# Altium schematic symbol library WE-LAN.SchLib: 54 symbols
Pins are listed as number, name and electrical type; pins without a type are passive.

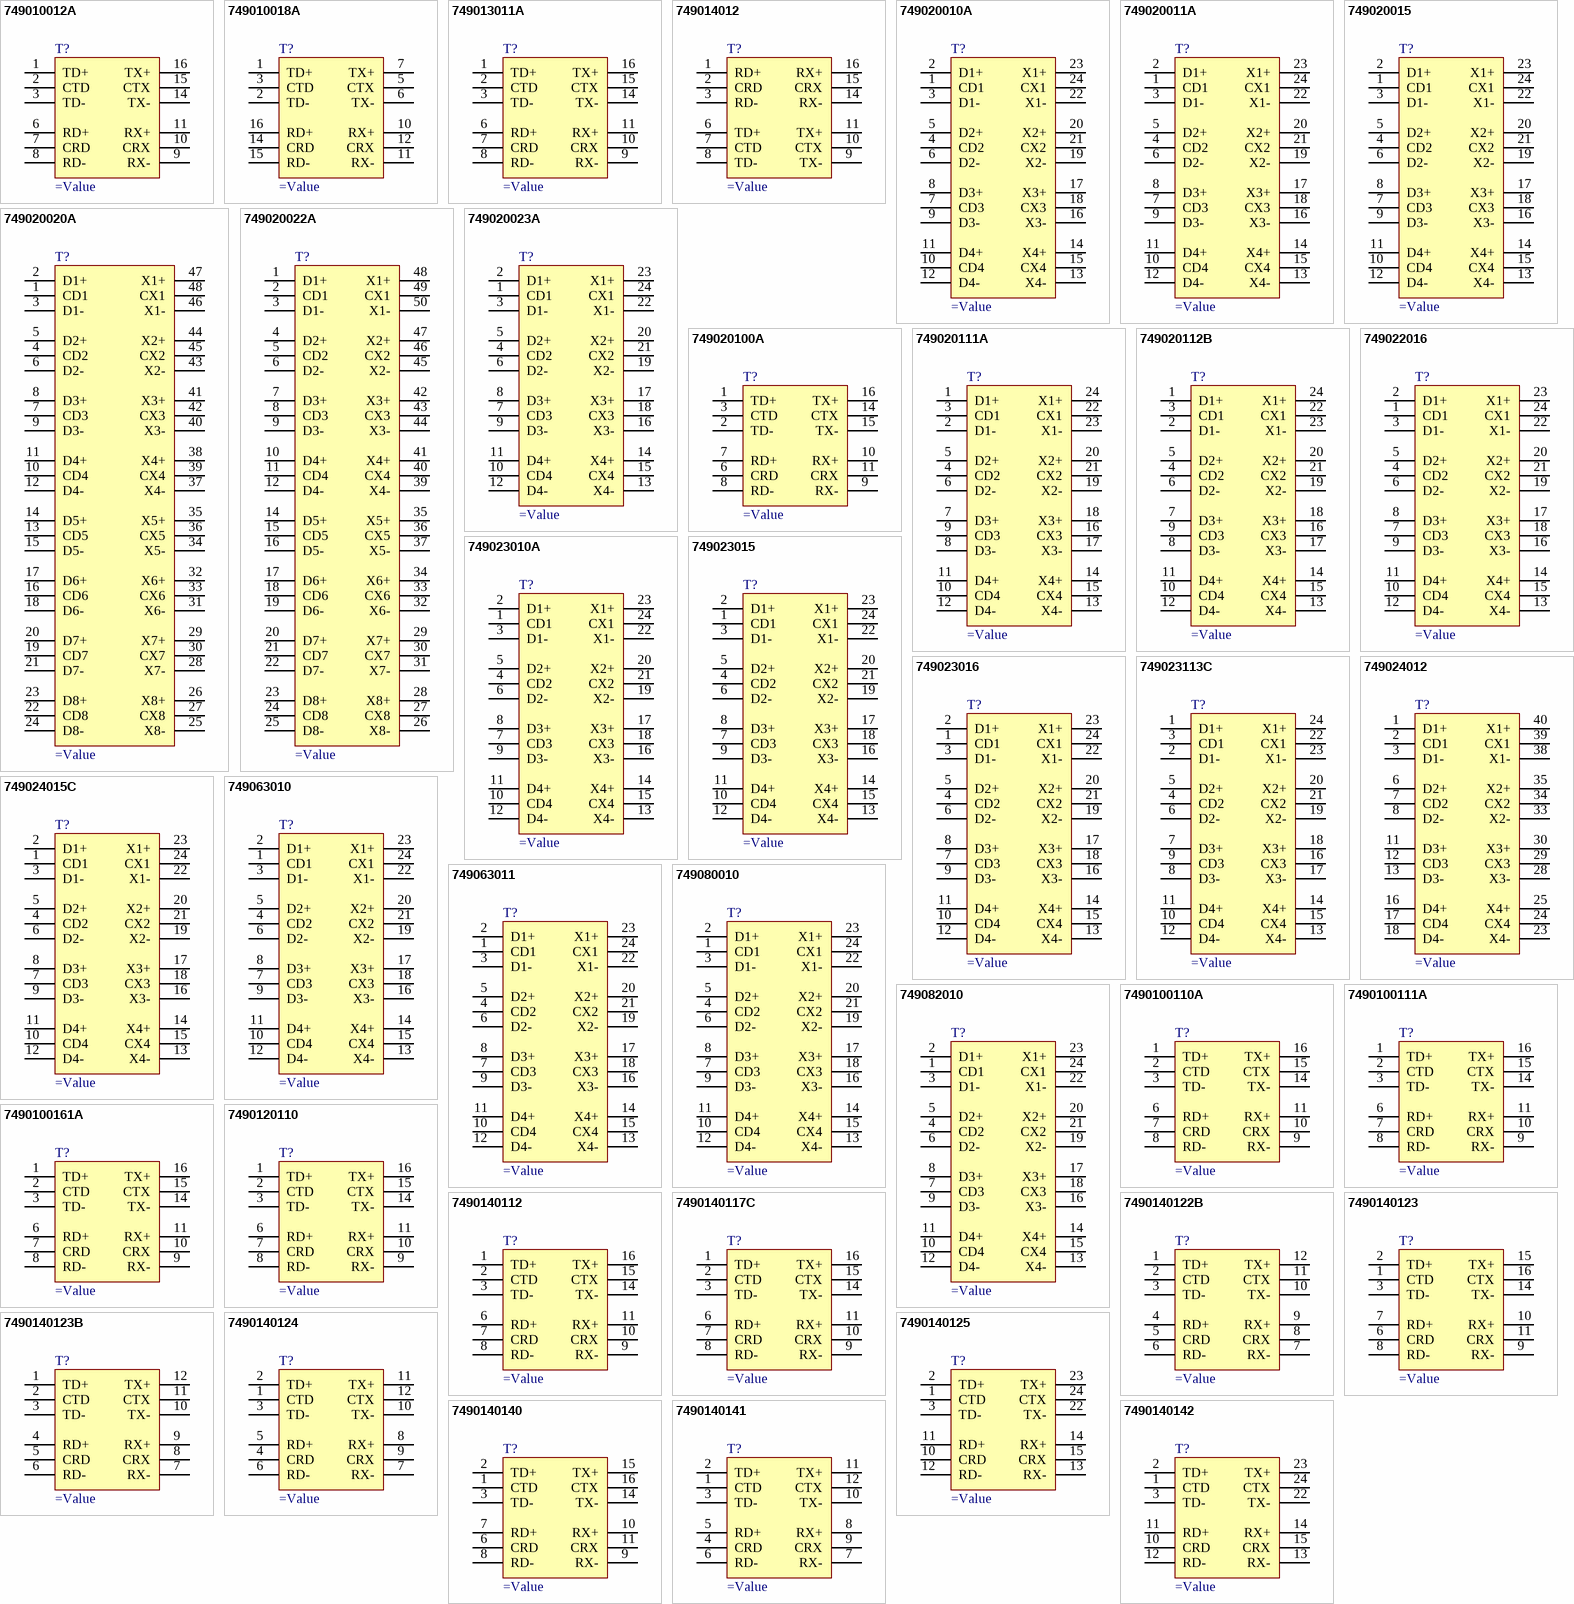
[diagram p0: symbols 749010012A to 7490140142]

## 749010012A
designator T?
pins: 1 TD+, 2 CTD, 3 TD-, 6 RD+, 7 CRD, 8 RD-, 9 RX-, 10 CRX, 11 RX+, 14 TX-, 15 CTX, 16 TX+

## 749010018A
designator T?
pins: 1 TD+, 2 TD-, 3 CTD, 5 CTX, 6 TX-, 7 TX+, 10 RX+, 11 RX-, 12 CRX, 14 CRD, 15 RD-, 16 RD+

## 749013011A
designator T?
pins: 1 TD+, 2 CTD, 3 TD-, 6 RD+, 7 CRD, 8 RD-, 9 RX-, 10 CRX, 11 RX+, 14 TX-, 15 CTX, 16 TX+

## 749014012
designator T?
pins: 1 RD+, 2 CRD, 3 RD-, 6 TD+, 7 CTD, 8 TD-, 9 TX-, 10 CTX, 11 TX+, 14 RX-, 15 CRX, 16 RX+

## 749020010A
designator T?
pins: 1 CD1, 2 D1+, 3 D1-, 4 CD2, 5 D2+, 6 D2-, 7 CD3, 8 D3+, 9 D3-, 10 CD4, 11 D4+, 12 D4-, 13 X4-, 14 X4+, 15 CX4, 16 X3-, 17 X3+, 18 CX3, 19 X2-, 20 X2+, 21 CX2, 22 X1-, 23 X1+, 24 CX1

## 749020011A
designator T?
pins: 1 CD1, 2 D1+, 3 D1-, 4 CD2, 5 D2+, 6 D2-, 7 CD3, 8 D3+, 9 D3-, 10 CD4, 11 D4+, 12 D4-, 13 X4-, 14 X4+, 15 CX4, 16 X3-, 17 X3+, 18 CX3, 19 X2-, 20 X2+, 21 CX2, 22 X1-, 23 X1+, 24 CX1

## 749020015
designator T?
pins: 1 CD1, 2 D1+, 3 D1-, 4 CD2, 5 D2+, 6 D2-, 7 CD3, 8 D3+, 9 D3-, 10 CD4, 11 D4+, 12 D4-, 13 X4-, 14 X4+, 15 CX4, 16 X3-, 17 X3+, 18 CX3, 19 X2-, 20 X2+, 21 CX2, 22 X1-, 23 X1+, 24 CX1

## 749020020A
designator T?
pins: 1 CD1, 2 D1+, 3 D1-, 4 CD2, 5 D2+, 6 D2-, 7 CD3, 8 D3+, 9 D3-, 10 CD4, 11 D4+, 12 D4-, 13 CD5, 14 D5+, 15 D5-, 16 CD6, 17 D6+, 18 D6-, 19 CD7, 20 D7+, 21 D7-, 22 CD8, 23 D8+, 24 D8-, 25 X8-, 26 X8+, 27 CX8, 28 X7-, 29 X7+, 30 CX7, 31 X6-, 32 X6+, 33 CX6, 34 X5-, 35 X5+, 36 CX5, 37 X4-, 38 X4+, 39 CX4, 40 X3-, 41 X3+, 42 CX3, 43 X2-, 44 X2+, 45 CX2, 46 X1-, 47 X1+, 48 CX1

## 749020022A
designator T?
pins: 1 D1+, 2 CD1, 3 D1-, 4 D2+, 5 CD2, 6 D2-, 7 D3+, 8 CD3, 9 D3-, 10 D4+, 11 CD4, 12 D4-, 14 D5+, 15 CD5, 16 D5-, 17 D6+, 18 CD6, 19 D6-, 20 D7+, 21 CD7, 22 D7-, 23 D8+, 24 CD8, 25 D8-, 26 X8-, 27 CX8, 28 X8+, 29 X7+, 30 CX7, 31 X7-, 32 X6-, 33 CX6, 34 X6+, 35 X5+, 36 CX5, 37 X5-, 39 X4-, 40 CX4, 41 X4+, 42 X3+, 43 CX3, 44 X3-, 45 X2-, 46 CX2, 47 X2+, 48 X1+, 49 CX1, 50 X1-

## 749020023A
designator T?
pins: 1 CD1, 2 D1+, 3 D1-, 4 CD2, 5 D2+, 6 D2-, 7 CD3, 8 D3+, 9 D3-, 10 CD4, 11 D4+, 12 D4-, 13 X4-, 14 X4+, 15 CX4, 16 X3-, 17 X3+, 18 CX3, 19 X2-, 20 X2+, 21 CX2, 22 X1-, 23 X1+, 24 CX1

## 749020100A
designator T?
pins: 1 TD+, 2 TD-, 3 CTD, 6 CRD, 7 RD+, 8 RD-, 9 RX-, 10 RX+, 11 CRX, 14 CTX, 15 TX-, 16 TX+

## 749020111A
designator T?
pins: 1 D1+, 2 D1-, 3 CD1, 4 CD2, 5 D2+, 6 D2-, 7 D3+, 8 D3-, 9 CD3, 10 CD4, 11 D4+, 12 D4-, 13 X4-, 14 X4+, 15 CX4, 16 CX3, 17 X3-, 18 X3+, 19 X2-, 20 X2+, 21 CX2, 22 CX1, 23 X1-, 24 X1+

## 749020112B
designator T?
pins: 1 D1+, 2 D1-, 3 CD1, 4 CD2, 5 D2+, 6 D2-, 7 D3+, 8 D3-, 9 CD3, 10 CD4, 11 D4+, 12 D4-, 13 X4-, 14 X4+, 15 CX4, 16 CX3, 17 X3-, 18 X3+, 19 X2-, 20 X2+, 21 CX2, 22 CX1, 23 X1-, 24 X1+

## 749022016
designator T?
pins: 1 CD1, 2 D1+, 3 D1-, 4 CD2, 5 D2+, 6 D2-, 7 CD3, 8 D3+, 9 D3-, 10 CD4, 11 D4+, 12 D4-, 13 X4-, 14 X4+, 15 CX4, 16 X3-, 17 X3+, 18 CX3, 19 X2-, 20 X2+, 21 CX2, 22 X1-, 23 X1+, 24 CX1

## 749023010A
designator T?
pins: 1 CD1, 2 D1+, 3 D1-, 4 CD2, 5 D2+, 6 D2-, 7 CD3, 8 D3+, 9 D3-, 10 CD4, 11 D4+, 12 D4-, 13 X4-, 14 X4+, 15 CX4, 16 X3-, 17 X3+, 18 CX3, 19 X2-, 20 X2+, 21 CX2, 22 X1-, 23 X1+, 24 CX1

## 749023015
designator T?
pins: 1 CD1, 2 D1+, 3 D1-, 4 CD2, 5 D2+, 6 D2-, 7 CD3, 8 D3+, 9 D3-, 10 CD4, 11 D4+, 12 D4-, 13 X4-, 14 X4+, 15 CX4, 16 X3-, 17 X3+, 18 CX3, 19 X2-, 20 X2+, 21 CX2, 22 X1-, 23 X1+, 24 CX1

## 749023016
designator T?
pins: 1 CD1, 2 D1+, 3 D1-, 4 CD2, 5 D2+, 6 D2-, 7 CD3, 8 D3+, 9 D3-, 10 CD4, 11 D4+, 12 D4-, 13 X4-, 14 X4+, 15 CX4, 16 X3-, 17 X3+, 18 CX3, 19 X2-, 20 X2+, 21 CX2, 22 X1-, 23 X1+, 24 CX1

## 749023113C
designator T?
pins: 1 D1+, 2 D1-, 3 CD1, 4 CD2, 5 D2+, 6 D2-, 7 D3+, 8 D3-, 9 CD3, 10 CD4, 11 D4+, 12 D4-, 13 X4-, 14 X4+, 15 CX4, 16 CX3, 17 X3-, 18 X3+, 19 X2-, 20 X2+, 21 CX2, 22 CX1, 23 X1-, 24 X1+

## 749024012
designator T?
pins: 1 D1+, 2 CD1, 3 D1-, 6 D2+, 7 CD2, 8 D2-, 11 D3+, 12 CD3, 13 D3-, 16 D4+, 17 CD4, 18 D4-, 23 X4-, 24 CX4, 25 X4+, 28 X3-, 29 CX3, 30 X3+, 33 X2-, 34 CX2, 35 X2+, 38 X1-, 39 CX1, 40 X1+

## 749024015C
designator T?
pins: 1 CD1, 2 D1+, 3 D1-, 4 CD2, 5 D2+, 6 D2-, 7 CD3, 8 D3+, 9 D3-, 10 CD4, 11 D4+, 12 D4-, 13 X4-, 14 X4+, 15 CX4, 16 X3-, 17 X3+, 18 CX3, 19 X2-, 20 X2+, 21 CX2, 22 X1-, 23 X1+, 24 CX1

## 749063010
designator T?
pins: 1 CD1, 2 D1+, 3 D1-, 4 CD2, 5 D2+, 6 D2-, 7 CD3, 8 D3+, 9 D3-, 10 CD4, 11 D4+, 12 D4-, 13 X4-, 14 X4+, 15 CX4, 16 X3-, 17 X3+, 18 CX3, 19 X2-, 20 X2+, 21 CX2, 22 X1-, 23 X1+, 24 CX1

## 749063011
designator T?
pins: 1 CD1, 2 D1+, 3 D1-, 4 CD2, 5 D2+, 6 D2-, 7 CD3, 8 D3+, 9 D3-, 10 CD4, 11 D4+, 12 D4-, 13 X4-, 14 X4+, 15 CX4, 16 X3-, 17 X3+, 18 CX3, 19 X2-, 20 X2+, 21 CX2, 22 X1-, 23 X1+, 24 CX1

## 749080010
designator T?
pins: 1 CD1, 2 D1+, 3 D1-, 4 CD2, 5 D2+, 6 D2-, 7 CD3, 8 D3+, 9 D3-, 10 CD4, 11 D4+, 12 D4-, 13 X4-, 14 X4+, 15 CX4, 16 X3-, 17 X3+, 18 CX3, 19 X2-, 20 X2+, 21 CX2, 22 X1-, 23 X1+, 24 CX1

## 749082010
designator T?
pins: 1 CD1, 2 D1+, 3 D1-, 4 CD2, 5 D2+, 6 D2-, 7 CD3, 8 D3+, 9 D3-, 10 CD4, 11 D4+, 12 D4-, 13 X4-, 14 X4+, 15 CX4, 16 X3-, 17 X3+, 18 CX3, 19 X2-, 20 X2+, 21 CX2, 22 X1-, 23 X1+, 24 CX1

## 7490100110A
designator T?
pins: 1 TD+, 2 CTD, 3 TD-, 6 RD+, 7 CRD, 8 RD-, 9 RX-, 10 CRX, 11 RX+, 14 TX-, 15 CTX, 16 TX+

## 7490100111A
designator T?
pins: 1 TD+, 2 CTD, 3 TD-, 6 RD+, 7 CRD, 8 RD-, 9 RX-, 10 CRX, 11 RX+, 14 TX-, 15 CTX, 16 TX+

## 7490100161A
designator T?
pins: 1 TD+, 2 CTD, 3 TD-, 6 RD+, 7 CRD, 8 RD-, 9 RX-, 10 CRX, 11 RX+, 14 TX-, 15 CTX, 16 TX+

## 7490120110
designator T?
pins: 1 TD+, 2 CTD, 3 TD-, 6 RD+, 7 CRD, 8 RD-, 9 RX-, 10 CRX, 11 RX+, 14 TX-, 15 CTX, 16 TX+

## 7490140112
designator T?
pins: 1 TD+, 2 CTD, 3 TD-, 6 RD+, 7 CRD, 8 RD-, 9 RX-, 10 CRX, 11 RX+, 14 TX-, 15 CTX, 16 TX+

## 7490140117C
designator T?
pins: 1 TD+, 2 CTD, 3 TD-, 6 RD+, 7 CRD, 8 RD-, 9 RX-, 10 CRX, 11 RX+, 14 TX-, 15 CTX, 16 TX+

## 7490140122B
designator T?
pins: 1 TD+, 2 CTD, 3 TD-, 4 RD+, 5 CRD, 6 RD-, 7 RX-, 8 CRX, 9 RX+, 10 TX-, 11 CTX, 12 TX+

## 7490140123
designator T?
pins: 1 CTD, 2 TD+, 3 TD-, 6 CRD, 7 RD+, 8 RD-, 9 RX-, 10 RX+, 11 CRX, 14 TX-, 15 TX+, 16 CTX

## 7490140123B
designator T?
pins: 1 TD+, 2 CTD, 3 TD-, 4 RD+, 5 CRD, 6 RD-, 7 RX-, 8 CRX, 9 RX+, 10 TX-, 11 CTX, 12 TX+

## 7490140124
designator T?
pins: 1 CTD, 2 TD+, 3 TD-, 4 CRD, 5 RD+, 6 RD-, 7 RX-, 8 RX+, 9 CRX, 10 TX-, 11 TX+, 12 CTX

## 7490140125
designator T?
pins: 1 CTD, 2 TD+, 3 TD-, 10 CRD, 11 RD+, 12 RD-, 13 RX-, 14 RX+, 15 CRX, 22 TX-, 23 TX+, 24 CTX

## 7490140140
designator T?
pins: 1 CTD, 2 TD+, 3 TD-, 6 CRD, 7 RD+, 8 RD-, 9 RX-, 10 RX+, 11 CRX, 14 TX-, 15 TX+, 16 CTX

## 7490140141
designator T?
pins: 1 CTD, 2 TD+, 3 TD-, 4 CRD, 5 RD+, 6 RD-, 7 RX-, 8 RX+, 9 CRX, 10 TX-, 11 TX+, 12 CTX

## 7490140142
designator T?
pins: 1 CTD, 2 TD+, 3 TD-, 10 CRD, 11 RD+, 12 RD-, 13 RX-, 14 RX+, 15 CRX, 22 TX-, 23 TX+, 24 CTX

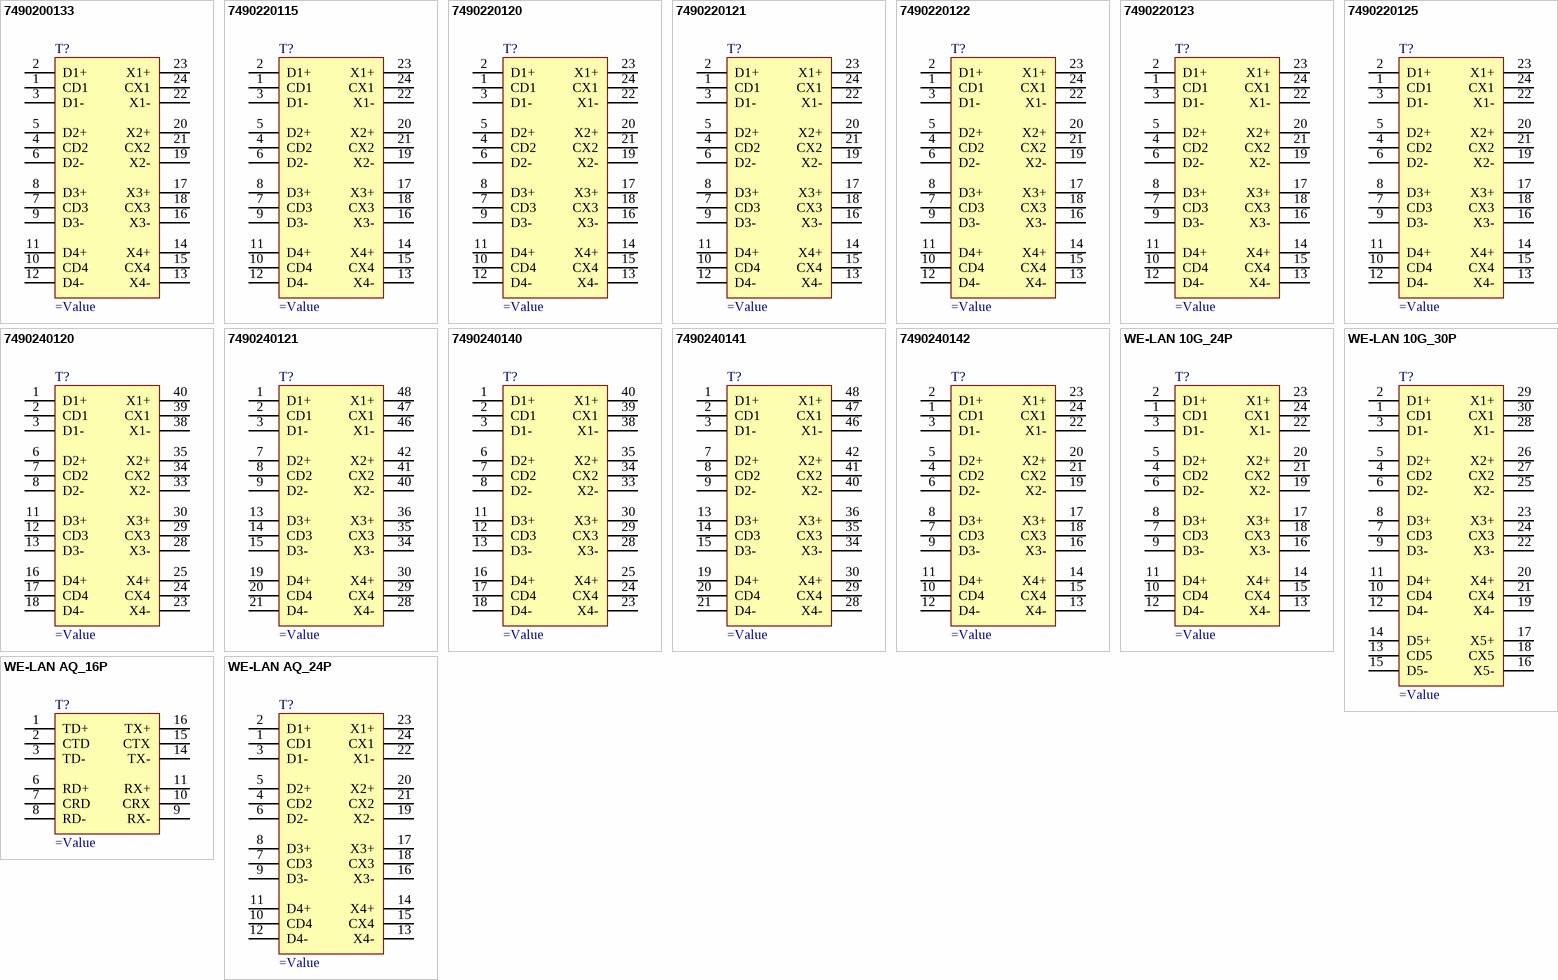
[diagram p1: symbols 7490200133 to WE-LAN AQ_24P]

## 7490200133
designator T?
pins: 1 CD1, 2 D1+, 3 D1-, 4 CD2, 5 D2+, 6 D2-, 7 CD3, 8 D3+, 9 D3-, 10 CD4, 11 D4+, 12 D4-, 13 X4-, 14 X4+, 15 CX4, 16 X3-, 17 X3+, 18 CX3, 19 X2-, 20 X2+, 21 CX2, 22 X1-, 23 X1+, 24 CX1

## 7490220115
designator T?
pins: 1 CD1, 2 D1+, 3 D1-, 4 CD2, 5 D2+, 6 D2-, 7 CD3, 8 D3+, 9 D3-, 10 CD4, 11 D4+, 12 D4-, 13 X4-, 14 X4+, 15 CX4, 16 X3-, 17 X3+, 18 CX3, 19 X2-, 20 X2+, 21 CX2, 22 X1-, 23 X1+, 24 CX1

## 7490220120
designator T?
pins: 1 CD1, 2 D1+, 3 D1-, 4 CD2, 5 D2+, 6 D2-, 7 CD3, 8 D3+, 9 D3-, 10 CD4, 11 D4+, 12 D4-, 13 X4-, 14 X4+, 15 CX4, 16 X3-, 17 X3+, 18 CX3, 19 X2-, 20 X2+, 21 CX2, 22 X1-, 23 X1+, 24 CX1

## 7490220121
designator T?
pins: 1 CD1, 2 D1+, 3 D1-, 4 CD2, 5 D2+, 6 D2-, 7 CD3, 8 D3+, 9 D3-, 10 CD4, 11 D4+, 12 D4-, 13 X4-, 14 X4+, 15 CX4, 16 X3-, 17 X3+, 18 CX3, 19 X2-, 20 X2+, 21 CX2, 22 X1-, 23 X1+, 24 CX1

## 7490220122
designator T?
pins: 1 CD1, 2 D1+, 3 D1-, 4 CD2, 5 D2+, 6 D2-, 7 CD3, 8 D3+, 9 D3-, 10 CD4, 11 D4+, 12 D4-, 13 X4-, 14 X4+, 15 CX4, 16 X3-, 17 X3+, 18 CX3, 19 X2-, 20 X2+, 21 CX2, 22 X1-, 23 X1+, 24 CX1

## 7490220123
designator T?
pins: 1 CD1, 2 D1+, 3 D1-, 4 CD2, 5 D2+, 6 D2-, 7 CD3, 8 D3+, 9 D3-, 10 CD4, 11 D4+, 12 D4-, 13 X4-, 14 X4+, 15 CX4, 16 X3-, 17 X3+, 18 CX3, 19 X2-, 20 X2+, 21 CX2, 22 X1-, 23 X1+, 24 CX1

## 7490220125
designator T?
pins: 1 CD1, 2 D1+, 3 D1-, 4 CD2, 5 D2+, 6 D2-, 7 CD3, 8 D3+, 9 D3-, 10 CD4, 11 D4+, 12 D4-, 13 X4-, 14 X4+, 15 CX4, 16 X3-, 17 X3+, 18 CX3, 19 X2-, 20 X2+, 21 CX2, 22 X1-, 23 X1+, 24 CX1

## 7490240120
designator T?
pins: 1 D1+, 2 CD1, 3 D1-, 6 D2+, 7 CD2, 8 D2-, 11 D3+, 12 CD3, 13 D3-, 16 D4+, 17 CD4, 18 D4-, 23 X4-, 24 CX4, 25 X4+, 28 X3-, 29 CX3, 30 X3+, 33 X2-, 34 CX2, 35 X2+, 38 X1-, 39 CX1, 40 X1+

## 7490240121
designator T?
pins: 1 D1+, 2 CD1, 3 D1-, 7 D2+, 8 CD2, 9 D2-, 13 D3+, 14 CD3, 15 D3-, 19 D4+, 20 CD4, 21 D4-, 28 X4-, 29 CX4, 30 X4+, 34 X3-, 35 CX3, 36 X3+, 40 X2-, 41 CX2, 42 X2+, 46 X1-, 47 CX1, 48 X1+

## 7490240140
designator T?
pins: 1 D1+, 2 CD1, 3 D1-, 6 D2+, 7 CD2, 8 D2-, 11 D3+, 12 CD3, 13 D3-, 16 D4+, 17 CD4, 18 D4-, 23 X4-, 24 CX4, 25 X4+, 28 X3-, 29 CX3, 30 X3+, 33 X2-, 34 CX2, 35 X2+, 38 X1-, 39 CX1, 40 X1+

## 7490240141
designator T?
pins: 1 D1+, 2 CD1, 3 D1-, 7 D2+, 8 CD2, 9 D2-, 13 D3+, 14 CD3, 15 D3-, 19 D4+, 20 CD4, 21 D4-, 28 X4-, 29 CX4, 30 X4+, 34 X3-, 35 CX3, 36 X3+, 40 X2-, 41 CX2, 42 X2+, 46 X1-, 47 CX1, 48 X1+

## 7490240142
designator T?
pins: 1 CD1, 2 D1+, 3 D1-, 4 CD2, 5 D2+, 6 D2-, 7 CD3, 8 D3+, 9 D3-, 10 CD4, 11 D4+, 12 D4-, 13 X4-, 14 X4+, 15 CX4, 16 X3-, 17 X3+, 18 CX3, 19 X2-, 20 X2+, 21 CX2, 22 X1-, 23 X1+, 24 CX1

## WE-LAN 10G_24P
designator T?
pins: 1 CD1, 2 D1+, 3 D1-, 4 CD2, 5 D2+, 6 D2-, 7 CD3, 8 D3+, 9 D3-, 10 CD4, 11 D4+, 12 D4-, 13 X4-, 14 X4+, 15 CX4, 16 X3-, 17 X3+, 18 CX3, 19 X2-, 20 X2+, 21 CX2, 22 X1-, 23 X1+, 24 CX1

## WE-LAN 10G_30P
designator T?
pins: 1 CD1, 2 D1+, 3 D1-, 4 CD2, 5 D2+, 6 D2-, 7 CD3, 8 D3+, 9 D3-, 10 CD4, 11 D4+, 12 D4-, 13 CD5, 14 D5+, 15 D5-, 16 X5-, 17 X5+, 18 CX5, 19 X4-, 20 X4+, 21 CX4, 22 X3-, 23 X3+, 24 CX3, 25 X2-, 26 X2+, 27 CX2, 28 X1-, 29 X1+, 30 CX1

## WE-LAN AQ_16P
designator T?
pins: 1 TD+, 2 CTD, 3 TD-, 6 RD+, 7 CRD, 8 RD-, 9 RX-, 10 CRX, 11 RX+, 14 TX-, 15 CTX, 16 TX+

## WE-LAN AQ_24P
designator T?
pins: 1 CD1, 2 D1+, 3 D1-, 4 CD2, 5 D2+, 6 D2-, 7 CD3, 8 D3+, 9 D3-, 10 CD4, 11 D4+, 12 D4-, 13 X4-, 14 X4+, 15 CX4, 16 X3-, 17 X3+, 18 CX3, 19 X2-, 20 X2+, 21 CX2, 22 X1-, 23 X1+, 24 CX1